# Altium integrated library AMP CompactPCI Type F.IntLib: 9 symbols
Pins are listed as number, name and electrical type; pins without a type are passive.

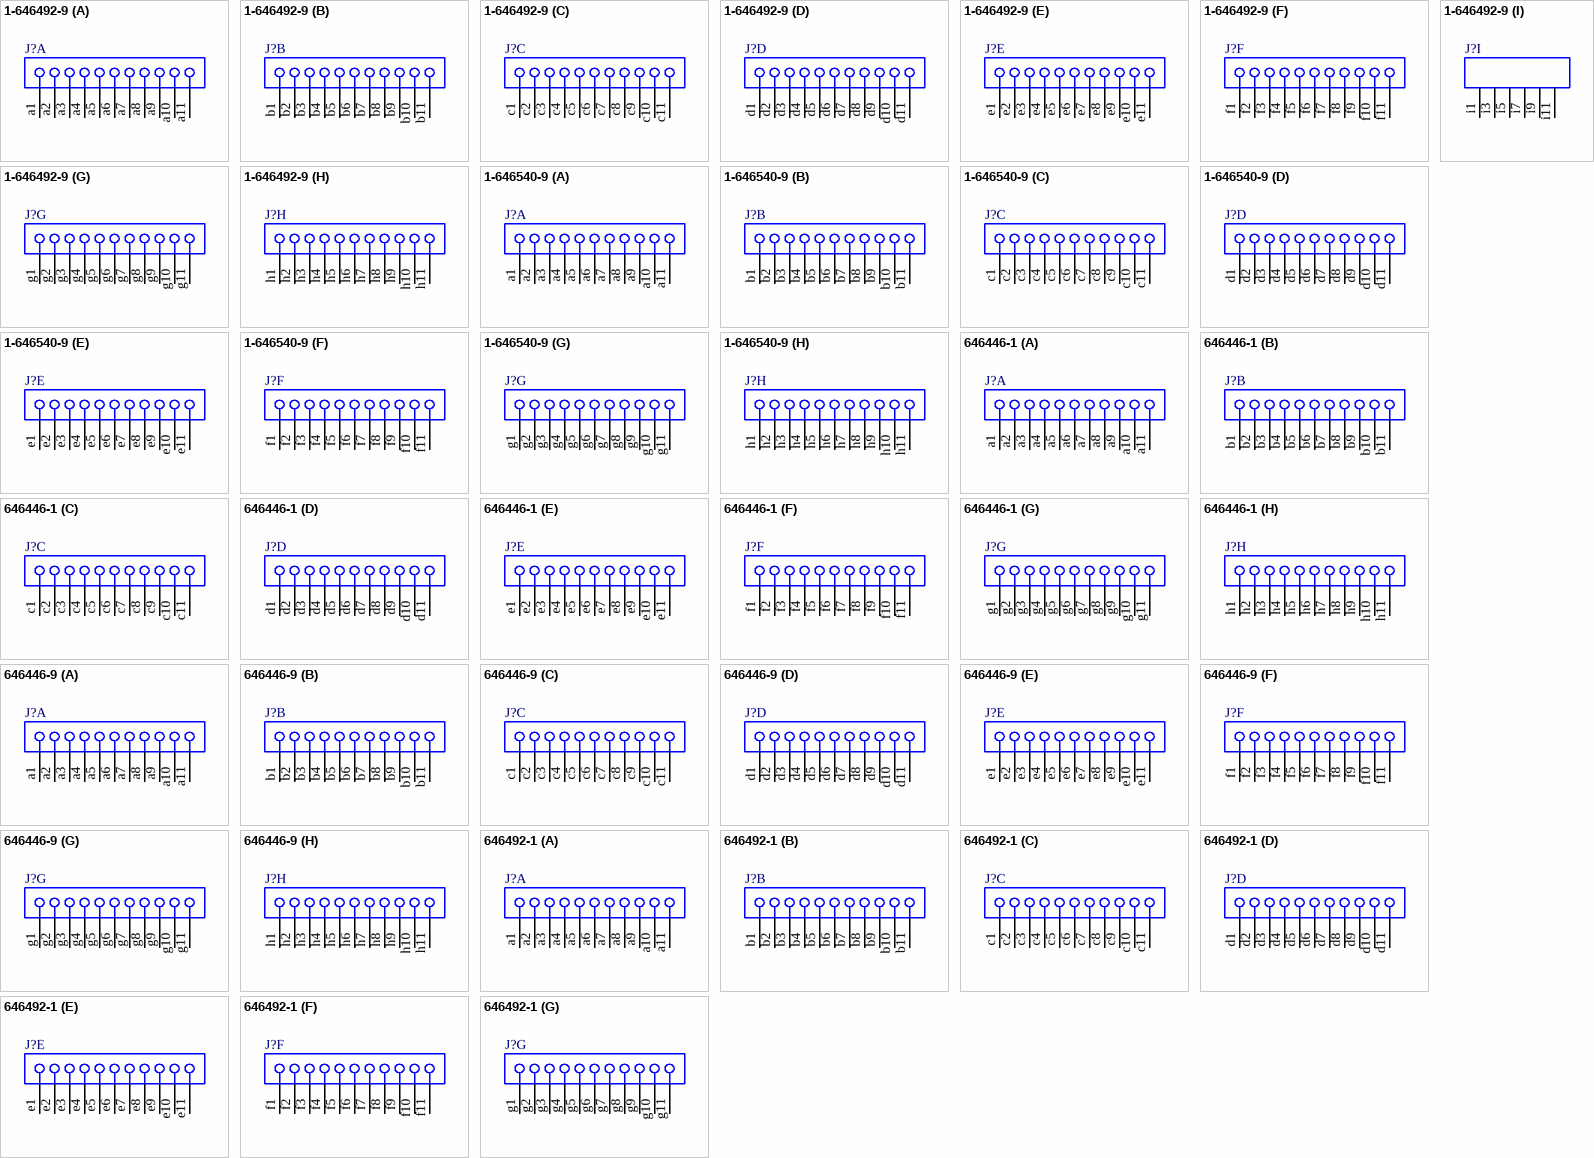
[diagram p0: symbols 1-646492-9 to 646492-1]

## 1-646492-9
designator J?
Z-Pack 2mm Hard Metric Type F 88 Position Female PCB Mount Connector; ContactMaterial: Phosphor Bronze; ContactPlating: Gold (50) over Nickel (50); Positions: 88; PCB_Layout: Complies with manufacturer's recommendation.; DrillSize: Corresponds to nominal value.; ComponentAvailability: Obsolete; Published: 17-Jul-2002; LatestRevisionDate: 29-May-2009; LatestRevisionNote: Component Body Added.; DatasheetVersion: 2-Jun-1999; PackageVersion: 02-Jun-1999; PackageReference: 1-646492-9; Publisher: Altium Limited; Orientation: Right Angle; HousingMaterial: Glass-Filled Polyester, UL 94V-0; ComponentLink1Description: Manufacturer Link; ComponentLink1URL: http://www.tycoelectronics.com/; ComponentLink2Description: Packaging Specification; ComponentLink2URL: http://ecommas.tycoelectronics.com/commerce/DocumentDelivery/DDEController?Action=showdoc&DocId=Customer+Drawing%7F646492%7FG%7Ftif%7FEnglish%7FENG_CD_646492_G.tif
footprint 1-646492-9 (Connector; CompactPCI; 88 Position; Right Angle)
signal-integrity model CompactPCI
part A pins: a1, a2, a3, a4, a5, a6, a7, a8, a9, a10, a11
part B pins: b1, b2, b3, b4, b5, b6, b7, b8, b9, b10, b11
part C pins: c1, c2, c3, c4, c5, c6, c7, c8, c9, c10, c11
part D pins: d1, d2, d3, d4, d5, d6, d7, d8, d9, d10, d11
part E pins: e1, e2, e3, e4, e5, e6, e7, e8, e9, e10, e11
part F pins: f1, f2, f3, f4, f5, f6, f7, f8, f9, f10, f11
part G pins: g1, g2, g3, g4, g5, g6, g7, g8, g9, g10, g11
part H pins: h1, h2, h3, h4, h5, h6, h7, h8, h9, h10, h11
part I pins: i1, i3, i5, i7, i9, i11

## 1-646540-9
designator J?
Z-Pack 2mm Hard Metric Type F 88 Position Female PCB Mount Connector; ContactMaterial: Phosphor Bronze; ContactPlating: Gold (50) over Nickel (50); Positions: 88; PCB_Layout: Complies with manufacturer's recommendation.; DrillSize: Corresponds to nominal value.; Published: 17-Jul-2002; LatestRevisionDate: 29-May-2009; LatestRevisionNote: Component Body Added.; DatasheetVersion: 8-Jun-1999; PackageVersion: 08-Jun-1999; PackageReference: 1-646540-9; Publisher: Altium Limited; Orientation: Vertical; HousingMaterial: Glass-Filled Polyester, UL 94V-0; ComponentLink1Description: Manufacturer Link; ComponentLink1URL: http://www.tycoelectronics.com/; ComponentLink2Description: Packaging Specification; ComponentLink2URL: http://ecommas.tycoelectronics.com/commerce/DocumentDelivery/DDEController?Action=showdoc&DocId=Customer+Drawing%7F646540%7FC%7Ftif%7FEnglish%7FENG_CD_646540_C.tif
footprint 1-646540-9 (Connector; CompactPCI; 88 Position; Vertical)
signal-integrity model CompactPCI
part A pins: a1, a2, a3, a4, a5, a6, a7, a8, a9, a10, a11
part B pins: b1, b2, b3, b4, b5, b6, b7, b8, b9, b10, b11
part C pins: c1, c2, c3, c4, c5, c6, c7, c8, c9, c10, c11
part D pins: d1, d2, d3, d4, d5, d6, d7, d8, d9, d10, d11
part E pins: e1, e2, e3, e4, e5, e6, e7, e8, e9, e10, e11
part F pins: f1, f2, f3, f4, f5, f6, f7, f8, f9, f10, f11
part G pins: g1, g2, g3, g4, g5, g6, g7, g8, g9, g10, g11
part H pins: h1, h2, h3, h4, h5, h6, h7, h8, h9, h10, h11

## 646446-1
designator J?
Z-Pack 2mm Hard Metric Type F 88 Position Female PCB Mount Connector; ContactMaterial: Phosphor Bronze; ContactPlating: Gold (30) over Nickel (50); Positions: 88; PCB_Layout: Complies with manufacturer's recommendation.; DrillSize: Corresponds to nominal value.; Published: 17-Jul-2002; LatestRevisionDate: 29-May-2009; LatestRevisionNote: Component Body Added.; DatasheetVersion: 30-Jul-1999; PackageVersion: 30-Jul-1999; PackageReference: 646446-1; Publisher: Altium Limited; Orientation: Right Angle; HousingMaterial: Glass-Filled Polyester, UL 94V-0; ComponentLink1Description: Manufacturer Link; ComponentLink1URL: http://www.tycoelectronics.com/; ComponentLink2Description: Packaging Specification; ComponentLink2URL: http://ecommas.tycoelectronics.com/commerce/DocumentDelivery/DDEController?Action=showdoc&DocId=Customer+Drawing%7F646446%7FE%7Ftif%7FEnglish%7FENG_CD_646446_E.tif; ComponentLink3Description: Iges Model; ComponentLink3URL: http://catalog.tycoelectronics.com/TE/docs/cadgeo/1/09/50901.tar.gz
footprint 646446-1 (Connector; CompactPCI; 88 Position; Right Angle)
signal-integrity model CompactPCI
part A pins: a1, a2, a3, a4, a5, a6, a7, a8, a9, a10, a11
part B pins: b1, b2, b3, b4, b5, b6, b7, b8, b9, b10, b11
part C pins: c1, c2, c3, c4, c5, c6, c7, c8, c9, c10, c11
part D pins: d1, d2, d3, d4, d5, d6, d7, d8, d9, d10, d11
part E pins: e1, e2, e3, e4, e5, e6, e7, e8, e9, e10, e11
part F pins: f1, f2, f3, f4, f5, f6, f7, f8, f9, f10, f11
part G pins: g1, g2, g3, g4, g5, g6, g7, g8, g9, g10, g11
part H pins: h1, h2, h3, h4, h5, h6, h7, h8, h9, h10, h11

## 646446-9
designator J?
Z-Pack 2mm Hard Metric Type F 88 Position Female PCB Mount Connector; ContactMaterial: Phosphor Bronze; ContactPlating: Gold (30) over Nickel (50); Positions: 88; PCB_Layout: Complies with manufacturer's recommendation.; DrillSize: Corresponds to nominal value.; Published: 17-Jul-2002; LatestRevisionDate: 29-May-2009; LatestRevisionNote: Component Body Added.; DatasheetVersion: 30-Jul-1999; PackageVersion: 30-Jul-1999; PackageReference: 646446-9; Publisher: Altium Limited; Orientation: Right Angle; HousingMaterial: Glass-Filled Polyester, UL 94V-0; ComponentLink1Description: Manufacturer Link; ComponentLink1URL: http://www.tycoelectronics.com/; ComponentLink2Description: Packaging Specification; ComponentLink2URL: http://ecommas.tycoelectronics.com/commerce/DocumentDelivery/DDEController?Action=showdoc&DocId=Customer+Drawing%7F646446%7FE%7Ftif%7FEnglish%7FENG_CD_646446_E.tif; ComponentLink3Description: Iges Model; ComponentLink3URL: http://catalog.tycoelectronics.com/TE/docs/cadgeo/1/09/50901.tar.gz
footprint 646446-9 (Connector; CompactPCI; 88 Position; Right Angle)
signal-integrity model CompactPCI
part A pins: a1, a2, a3, a4, a5, a6, a7, a8, a9, a10, a11
part B pins: b1, b2, b3, b4, b5, b6, b7, b8, b9, b10, b11
part C pins: c1, c2, c3, c4, c5, c6, c7, c8, c9, c10, c11
part D pins: d1, d2, d3, d4, d5, d6, d7, d8, d9, d10, d11
part E pins: e1, e2, e3, e4, e5, e6, e7, e8, e9, e10, e11
part F pins: f1, f2, f3, f4, f5, f6, f7, f8, f9, f10, f11
part G pins: g1, g2, g3, g4, g5, g6, g7, g8, g9, g10, g11
part H pins: h1, h2, h3, h4, h5, h6, h7, h8, h9, h10, h11

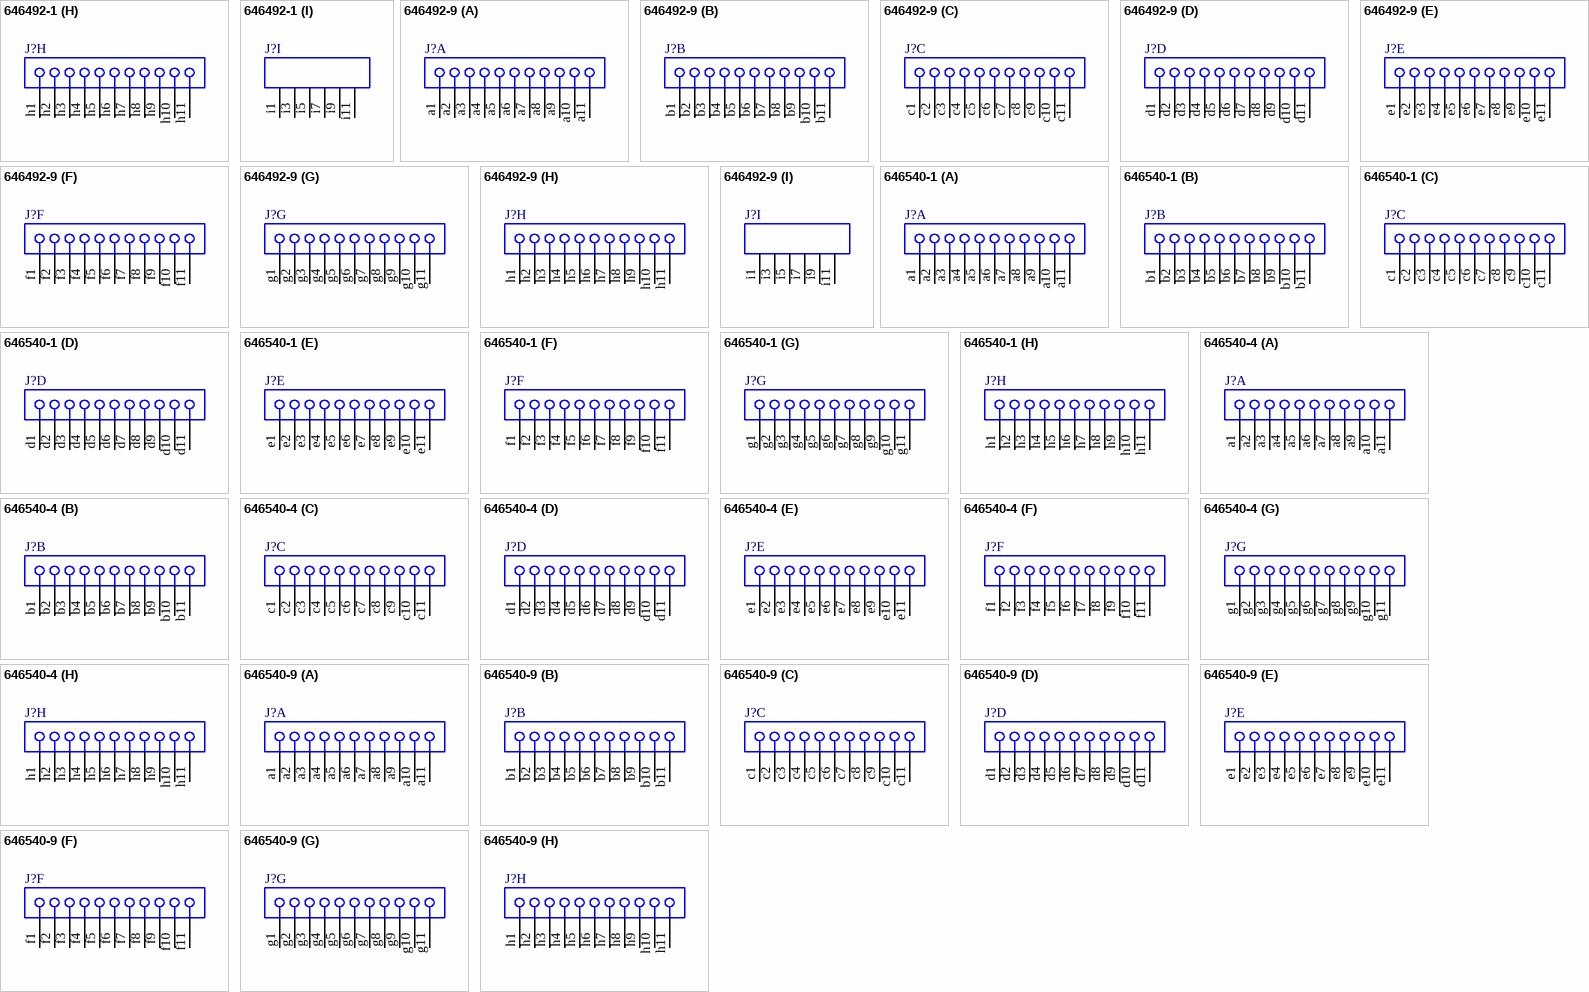
[diagram p1: symbols 646492-1 to 646540-9]

## 646492-1
designator J?
Z-Pack 2mm Hard Metric Type F 88 Position Female PCB Mount Connector; ContactMaterial: Phosphor Bronze; ContactPlating: Gold (30) over Nickel (50); Positions: 88; PCB_Layout: Complies with manufacturer's recommendation.; DrillSize: Corresponds to nominal value.; Published: 17-Jul-2002; LatestRevisionDate: 29-May-2009; LatestRevisionNote: Component Body Added.; DatasheetVersion: 2-Jun-1999; PackageVersion: 02-Jun-1999; PackageReference: 646492-1; Publisher: Altium Limited; Orientation: Right Angle; HousingMaterial: Glass-Filled Polyester, UL 94V-0; ComponentLink1Description: Manufacturer Link; ComponentLink1URL: http://www.tycoelectronics.com/; ComponentLink2Description: Packaging Specification; ComponentLink2URL: http://ecommas.tycoelectronics.com/commerce/DocumentDelivery/DDEController?Action=showdoc&DocId=Customer+Drawing%7F646492%7FG%7Ftif%7FEnglish%7FENG_CD_646492_G.tif
footprint 646492-1 (Connector; CompactPCI; 88 Position; Right Angle)
signal-integrity model CompactPCI
part A pins: a1, a2, a3, a4, a5, a6, a7, a8, a9, a10, a11
part B pins: b1, b2, b3, b4, b5, b6, b7, b8, b9, b10, b11
part C pins: c1, c2, c3, c4, c5, c6, c7, c8, c9, c10, c11
part D pins: d1, d2, d3, d4, d5, d6, d7, d8, d9, d10, d11
part E pins: e1, e2, e3, e4, e5, e6, e7, e8, e9, e10, e11
part F pins: f1, f2, f3, f4, f5, f6, f7, f8, f9, f10, f11
part G pins: g1, g2, g3, g4, g5, g6, g7, g8, g9, g10, g11
part H pins: h1, h2, h3, h4, h5, h6, h7, h8, h9, h10, h11
part I pins: i1, i3, i5, i7, i9, i11

## 646492-9
designator J?
Z-Pack 2mm Hard Metric Type F 88 Position Female PCB Mount Connector; ContactMaterial: Phosphor Bronze; ContactPlating: Gold (30) over Nickel (50); Positions: 88; PCB_Layout: Complies with manufacturer's recommendation.; DrillSize: Corresponds to nominal value.; ComponentAvailability: Obsolete; Published: 17-Jul-2002; LatestRevisionDate: 29-May-2009; LatestRevisionNote: Component Body Added.; DatasheetVersion: 2-Jun-1999; PackageVersion: 02-Jun-1999; PackageReference: 646492-9; Publisher: Altium Limited; Orientation: Right Angle; HousingMaterial: Glass-Filled Polyester, UL 94V-0; ComponentLink1Description: Manufacturer Link; ComponentLink1URL: http://www.tycoelectronics.com/; ComponentLink2Description: Packaging Specification; ComponentLink2URL: http://ecommas.tycoelectronics.com/commerce/DocumentDelivery/DDEController?Action=showdoc&DocId=Customer+Drawing%7F646492%7FG%7Ftif%7FEnglish%7FENG_CD_646492_G.tif
footprint 646492-9 (Connector; CompactPCI; 88 Position; Right Angle)
signal-integrity model CompactPCI
part A pins: a1, a2, a3, a4, a5, a6, a7, a8, a9, a10, a11
part B pins: b1, b2, b3, b4, b5, b6, b7, b8, b9, b10, b11
part C pins: c1, c2, c3, c4, c5, c6, c7, c8, c9, c10, c11
part D pins: d1, d2, d3, d4, d5, d6, d7, d8, d9, d10, d11
part E pins: e1, e2, e3, e4, e5, e6, e7, e8, e9, e10, e11
part F pins: f1, f2, f3, f4, f5, f6, f7, f8, f9, f10, f11
part G pins: g1, g2, g3, g4, g5, g6, g7, g8, g9, g10, g11
part H pins: h1, h2, h3, h4, h5, h6, h7, h8, h9, h10, h11
part I pins: i1, i3, i5, i7, i9, i11

## 646540-1
designator J?
Z-Pack 2mm Hard Metric Type F 88 Position Female PCB Mount Connector; ContactMaterial: Phosphor Bronze; ContactPlating: Gold (30) over Nickel (50); Positions: 88; PCB_Layout: Complies with manufacturer's recommendation.; DrillSize: Corresponds to nominal value.; Published: 17-Jul-2002; LatestRevisionDate: 29-May-2009; LatestRevisionNote: Component Body Added.; DatasheetVersion: 8-Jun-1999; PackageVersion: 08-Jun-1999; PackageReference: 646540-1; Publisher: Altium Limited; Orientation: Vertical; HousingMaterial: Glass-Filled Polyester, UL 94V-0; ComponentLink1Description: Manufacturer Link; ComponentLink1URL: http://www.tycoelectronics.com/; ComponentLink2Description: Packaging Specification; ComponentLink2URL: http://ecommas.tycoelectronics.com/commerce/DocumentDelivery/DDEController?Action=showdoc&DocId=Customer+Drawing%7F646540%7FC%7Ftif%7FEnglish%7FENG_CD_646540_C.tif
footprint 646540-1 (Connector; CompactPCI; 88 Position; Vertical)
signal-integrity model CompactPCI
part A pins: a1, a2, a3, a4, a5, a6, a7, a8, a9, a10, a11
part B pins: b1, b2, b3, b4, b5, b6, b7, b8, b9, b10, b11
part C pins: c1, c2, c3, c4, c5, c6, c7, c8, c9, c10, c11
part D pins: d1, d2, d3, d4, d5, d6, d7, d8, d9, d10, d11
part E pins: e1, e2, e3, e4, e5, e6, e7, e8, e9, e10, e11
part F pins: f1, f2, f3, f4, f5, f6, f7, f8, f9, f10, f11
part G pins: g1, g2, g3, g4, g5, g6, g7, g8, g9, g10, g11
part H pins: h1, h2, h3, h4, h5, h6, h7, h8, h9, h10, h11

## 646540-4
designator J?
Z-Pack 2mm Hard Metric Type F 88 Position Female PCB Mount Connector; ContactMaterial: Phosphor Bronze; ContactPlating: Gold (50) over Nickel (50); Positions: 88; PCB_Layout: Complies with manufacturer's recommendation.; DrillSize: Corresponds to nominal value.; Published: 17-Jul-2002; LatestRevisionDate: 29-May-2009; LatestRevisionNote: Component Body Added.; DatasheetVersion: 8-Jun-1999; PackageVersion: 08-Jun-1999; PackageReference: 646540-4; Publisher: Altium Limited; Orientation: Vertical; HousingMaterial: Glass-Filled Polyester, UL 94V-0; ComponentLink1Description: Manufacturer Link; ComponentLink1URL: http://www.tycoelectronics.com/; ComponentLink2Description: Packaging Specification; ComponentLink2URL: http://ecommas.tycoelectronics.com/commerce/DocumentDelivery/DDEController?Action=showdoc&DocId=Customer+Drawing%7F646540%7FC%7Ftif%7FEnglish%7FENG_CD_646540_C.tif
footprint 646540-4 (Connector; CompactPCI; 88 Position; Vertical)
signal-integrity model CompactPCI
part A pins: a1, a2, a3, a4, a5, a6, a7, a8, a9, a10, a11
part B pins: b1, b2, b3, b4, b5, b6, b7, b8, b9, b10, b11
part C pins: c1, c2, c3, c4, c5, c6, c7, c8, c9, c10, c11
part D pins: d1, d2, d3, d4, d5, d6, d7, d8, d9, d10, d11
part E pins: e1, e2, e3, e4, e5, e6, e7, e8, e9, e10, e11
part F pins: f1, f2, f3, f4, f5, f6, f7, f8, f9, f10, f11
part G pins: g1, g2, g3, g4, g5, g6, g7, g8, g9, g10, g11
part H pins: h1, h2, h3, h4, h5, h6, h7, h8, h9, h10, h11

## 646540-9
designator J?
Z-Pack 2mm Hard Metric Type F 88 Position Female PCB Mount Connector; ContactMaterial: Phosphor Bronze; ContactPlating: Gold (30) over Nickel (50); Positions: 88; PCB_Layout: Complies with manufacturer's recommendation.; DrillSize: Corresponds to nominal value.; Published: 17-Jul-2002; LatestRevisionDate: 29-May-2009; LatestRevisionNote: Component Body Added.; DatasheetVersion: 8-Jun-1999; PackageVersion: 08-Jun-1999; PackageReference: 646540-9; Publisher: Altium Limited; Orientation: Vertical; HousingMaterial: Glass-Filled Polyester, UL 94V-0; ComponentLink1Description: Manufacturer Link; ComponentLink1URL: http://www.tycoelectronics.com/; ComponentLink2Description: Packaging Specification; ComponentLink2URL: http://ecommas.tycoelectronics.com/commerce/DocumentDelivery/DDEController?Action=showdoc&DocId=Customer+Drawing%7F646540%7FC%7Ftif%7FEnglish%7FENG_CD_646540_C.tif
footprint 646540-9 (Connector; CompactPCI; 88 Position; Vertical)
signal-integrity model CompactPCI
part A pins: a1, a2, a3, a4, a5, a6, a7, a8, a9, a10, a11
part B pins: b1, b2, b3, b4, b5, b6, b7, b8, b9, b10, b11
part C pins: c1, c2, c3, c4, c5, c6, c7, c8, c9, c10, c11
part D pins: d1, d2, d3, d4, d5, d6, d7, d8, d9, d10, d11
part E pins: e1, e2, e3, e4, e5, e6, e7, e8, e9, e10, e11
part F pins: f1, f2, f3, f4, f5, f6, f7, f8, f9, f10, f11
part G pins: g1, g2, g3, g4, g5, g6, g7, g8, g9, g10, g11
part H pins: h1, h2, h3, h4, h5, h6, h7, h8, h9, h10, h11